# Altium integrated library ALTIUM-WE-TPC-rev17a.IntLib: 258 symbols (part 3 of 3)
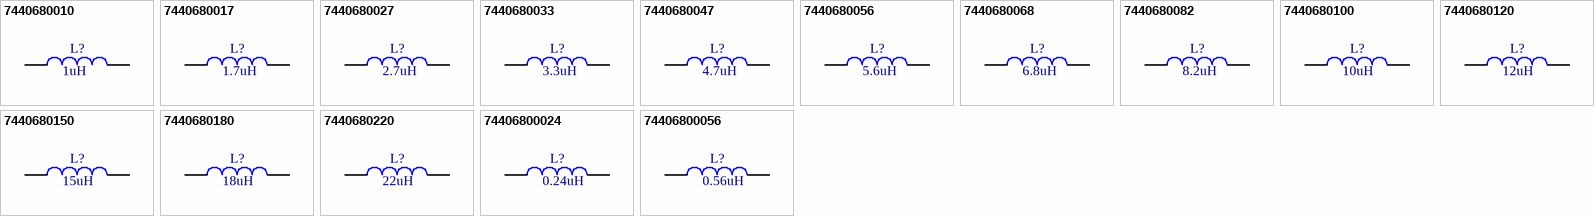
[diagram p17: symbols 7440680010 to 74406800056]

## 7440680056
designator L?  value 5.6uH
WE-TPC SMD Shielded Tiny Power Inductor, size 8012, 1.5A, 110mΩ, 5.6uH; Part Number: 7440680056; ComponentLink1Description: Manufacturer; ComponentLink1URL: http://www.we-online.de; ComponentLink2Description: Datasheet; ComponentLink2URL: http://katalog.we-online.de/pbs/datasheet/7440680056.pdf; Published Date: July 2017; Publisher: Wurth Elektronik; Rated Current: 1.5A; Size: 8012; DC Resistance: 110mΩ
footprint WE-TPC_8012
pins: 1, 3

## 7440680068
designator L?  value 6.8uH
WE-TPC SMD Shielded Tiny Power Inductor, size 8012, 1.4A, 127mΩ, 6.8uH; Part Number: 7440680068; ComponentLink1Description: Manufacturer; ComponentLink1URL: http://www.we-online.de; ComponentLink2Description: Datasheet; ComponentLink2URL: http://katalog.we-online.de/pbs/datasheet/7440680068.pdf; Published Date: July 2017; Publisher: Wurth Elektronik; Rated Current: 1.4A; Size: 8012; DC Resistance: 127mΩ
footprint WE-TPC_8012
pins: 1, 3

## 7440680082
designator L?  value 8.2uH
WE-TPC SMD Shielded Tiny Power Inductor, size 8012, 1.35A, 142mΩ, 8.2uH; Part Number: 7440680082; ComponentLink1Description: Manufacturer; ComponentLink1URL: http://www.we-online.de; ComponentLink2Description: Datasheet; ComponentLink2URL: http://katalog.we-online.de/pbs/datasheet/7440680082.pdf; Published Date: July 2017; Publisher: Wurth Elektronik; Rated Current: 1.35A; Size: 8012; DC Resistance: 142mΩ
footprint WE-TPC_8012
pins: 1, 3

## 7440680100
designator L?  value 10uH
WE-TPC SMD Shielded Tiny Power Inductor, size 8012, 1.2A, 177mΩ, 10uH; Part Number: 7440680100; ComponentLink1Description: Manufacturer; ComponentLink1URL: http://www.we-online.de; ComponentLink2Description: Datasheet; ComponentLink2URL: http://katalog.we-online.de/pbs/datasheet/7440680100.pdf; Published Date: July 2017; Publisher: Wurth Elektronik; Rated Current: 1.2A; Size: 8012; DC Resistance: 177mΩ
footprint WE-TPC_8012
pins: 1, 3

## 7440680120
designator L?  value 12uH
WE-TPC SMD Shielded Tiny Power Inductor, size 8012, 1.15A, 195mΩ, 12uH; Part Number: 7440680120; ComponentLink1Description: Manufacturer; ComponentLink1URL: http://www.we-online.de; ComponentLink2Description: Datasheet; ComponentLink2URL: http://katalog.we-online.de/pbs/datasheet/7440680120.pdf; Published Date: July 2017; Publisher: Wurth Elektronik; Rated Current: 1.15A; Size: 8012; DC Resistance: 195mΩ
footprint WE-TPC_8012
pins: 1, 3

## 7440680150
designator L?  value 15uH
WE-TPC SMD Shielded Tiny Power Inductor, size 8012, 1.1A, 213mΩ, 15uH; Part Number: 7440680150; ComponentLink1Description: Manufacturer; ComponentLink1URL: http://www.we-online.de; ComponentLink2Description: Datasheet; ComponentLink2URL: http://katalog.we-online.de/pbs/datasheet/7440680150.pdf; Published Date: July 2017; Publisher: Wurth Elektronik; Rated Current: 1.1A; Size: 8012; DC Resistance: 213mΩ
footprint WE-TPC_8012
pins: 1, 3

## 7440680180
designator L?  value 18uH
WE-TPC SMD Shielded Tiny Power Inductor, size 8012, 0.9A, 302mΩ, 18uH; Part Number: 7440680180; ComponentLink1Description: Manufacturer; ComponentLink1URL: http://www.we-online.de; ComponentLink2Description: Datasheet; ComponentLink2URL: http://katalog.we-online.de/pbs/datasheet/7440680180.pdf; Published Date: July 2017; Publisher: Wurth Elektronik; Rated Current: 0.9A; Size: 8012; DC Resistance: 302mΩ
footprint WE-TPC_8012
pins: 1, 3

## 7440680220
designator L?  value 22uH
WE-TPC SMD Shielded Tiny Power Inductor, size 8012, 0.85A, 350mΩ, 22uH; Part Number: 7440680220; ComponentLink1Description: Manufacturer; ComponentLink1URL: http://www.we-online.de; ComponentLink2Description: Datasheet; ComponentLink2URL: http://katalog.we-online.de/pbs/datasheet/7440680220.pdf; Published Date: July 2017; Publisher: Wurth Elektronik; Rated Current: 0.85A; Size: 8012; DC Resistance: 350mΩ
footprint WE-TPC_8012
pins: 1, 3

## 74406800024
designator L?  value 0.24uH
WE-TPC SMD Shielded Tiny Power Inductor, size 8012, 4.1A, 15mΩ, 0.24uH; Part Number: 74406800024; ComponentLink1Description: Manufacturer; ComponentLink1URL: http://www.we-online.de; ComponentLink2Description: Datasheet; ComponentLink2URL: http://katalog.we-online.de/pbs/datasheet/74406800024.pdf; Published Date: July 2017; Publisher: Wurth Elektronik; Rated Current: 4.1A; Size: 8012; DC Resistance: 15mΩ
footprint WE-TPC_8012
pins: 1, 3

## 74406800056
designator L?  value 0.56uH
WE-TPC SMD Shielded Tiny Power Inductor, size 8012, 3.4A, 22mΩ, 0.56uH; Part Number: 74406800056; ComponentLink1Description: Manufacturer; ComponentLink1URL: http://www.we-online.de; ComponentLink2Description: Datasheet; ComponentLink2URL: http://katalog.we-online.de/pbs/datasheet/74406800056.pdf; Published Date: July 2017; Publisher: Wurth Elektronik; Rated Current: 3.4A; Size: 8012; DC Resistance: 22mΩ
footprint WE-TPC_8012
pins: 1, 3


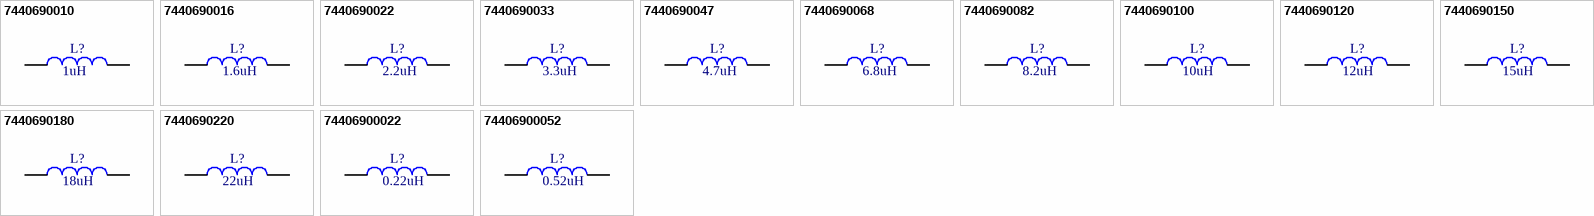
[diagram p13: symbols 7440690010 to 74406900052]

## 7440690010
designator L?  value 1uH
WE-TPC SMD Shielded Tiny Power Inductor, size 8015, 3.6A, 21mΩ, 1uH; Part Number: 7440690010; ComponentLink1Description: Manufacturer; ComponentLink1URL: http://www.we-online.de; ComponentLink2Description: Datasheet; ComponentLink2URL: http://katalog.we-online.de/pbs/datasheet/7440690010.pdf; Published Date: July 2017; Publisher: Wurth Elektronik; Rated Current: 3.6A; Size: 8015; DC Resistance: 21mΩ
footprint WE-TPC_8015
pins: 1, 3

## 7440690016
designator L?  value 1.6uH
WE-TPC SMD Shielded Tiny Power Inductor, size 8015, 3.1A, 29mΩ, 1.6uH; Part Number: 7440690016; ComponentLink1Description: Manufacturer; ComponentLink1URL: http://www.we-online.de; ComponentLink2Description: Datasheet; ComponentLink2URL: http://katalog.we-online.de/pbs/datasheet/7440690016.pdf; Published Date: July 2017; Publisher: Wurth Elektronik; Rated Current: 3.1A; Size: 8015; DC Resistance: 29mΩ
footprint WE-TPC_8015
pins: 1, 3

## 7440690022
designator L?  value 2.2uH
WE-TPC SMD Shielded Tiny Power Inductor, size 8015, 2.8A, 35mΩ, 2.2uH; Part Number: 7440690022; ComponentLink1Description: Manufacturer; ComponentLink1URL: http://www.we-online.de; ComponentLink2Description: Datasheet; ComponentLink2URL: http://katalog.we-online.de/pbs/datasheet/7440690022.pdf; Published Date: July 2017; Publisher: Wurth Elektronik; Rated Current: 2.8A; Size: 8015; DC Resistance: 35mΩ
footprint WE-TPC_8015
pins: 1, 3

## 7440690033
designator L?  value 3.3uH
WE-TPC SMD Shielded Tiny Power Inductor, size 8015, 2.55A, 42mΩ, 3.3uH; Part Number: 7440690033; ComponentLink1Description: Manufacturer; ComponentLink1URL: http://www.we-online.de; ComponentLink2Description: Datasheet; ComponentLink2URL: http://katalog.we-online.de/pbs/datasheet/7440690033.pdf; Published Date: July 2017; Publisher: Wurth Elektronik; Rated Current: 2.55A; Size: 8015; DC Resistance: 42mΩ
footprint WE-TPC_8015
pins: 1, 3

## 7440690047
designator L?  value 4.7uH
WE-TPC SMD Shielded Tiny Power Inductor, size 8015, 2.2A, 56mΩ, 4.7uH; Part Number: 7440690047; ComponentLink1Description: Manufacturer; ComponentLink1URL: http://www.we-online.de; ComponentLink2Description: Datasheet; ComponentLink2URL: http://katalog.we-online.de/pbs/datasheet/7440690047.pdf; Published Date: July 2017; Publisher: Wurth Elektronik; Rated Current: 2.2A; Size: 8015; DC Resistance: 56mΩ
footprint WE-TPC_8015
pins: 1, 3

## 7440690068
designator L?  value 6.8uH
WE-TPC SMD Shielded Tiny Power Inductor, size 8015, 1.75A, 88mΩ, 6.8uH; Part Number: 7440690068; ComponentLink1Description: Manufacturer; ComponentLink1URL: http://www.we-online.de; ComponentLink2Description: Datasheet; ComponentLink2URL: http://katalog.we-online.de/pbs/datasheet/7440690068.pdf; Published Date: July 2017; Publisher: Wurth Elektronik; Rated Current: 1.75A; Size: 8015; DC Resistance: 88mΩ
footprint WE-TPC_8015
pins: 1, 3

## 7440690082
designator L?  value 8.2uH
WE-TPC SMD Shielded Tiny Power Inductor, size 8015, 1.65A, 99mΩ, 8.2uH; Part Number: 7440690082; ComponentLink1Description: Manufacturer; ComponentLink1URL: http://www.we-online.de; ComponentLink2Description: Datasheet; ComponentLink2URL: http://katalog.we-online.de/pbs/datasheet/7440690082.pdf; Published Date: July 2017; Publisher: Wurth Elektronik; Rated Current: 1.65A; Size: 8015; DC Resistance: 99mΩ
footprint WE-TPC_8015
pins: 1, 3

## 7440690100
designator L?  value 10uH
WE-TPC SMD Shielded Tiny Power Inductor, size 8015, 1.55A, 112mΩ, 10uH; Part Number: 7440690100; ComponentLink1Description: Manufacturer; ComponentLink1URL: http://www.we-online.de; ComponentLink2Description: Datasheet; ComponentLink2URL: http://katalog.we-online.de/pbs/datasheet/7440690100.pdf; Published Date: July 2017; Publisher: Wurth Elektronik; Rated Current: 1.55A; Size: 8015; DC Resistance: 112mΩ
footprint WE-TPC_8015
pins: 1, 3

## 7440690120
designator L?  value 12uH
WE-TPC SMD Shielded Tiny Power Inductor, size 8015, 1.35A, 148mΩ, 12uH; Part Number: 7440690120; ComponentLink1Description: Manufacturer; ComponentLink1URL: http://www.we-online.de; ComponentLink2Description: Datasheet; ComponentLink2URL: http://katalog.we-online.de/pbs/datasheet/7440690120.pdf; Published Date: July 2017; Publisher: Wurth Elektronik; Rated Current: 1.35A; Size: 8015; DC Resistance: 148mΩ
footprint WE-TPC_8015
pins: 1, 3

## 7440690150
designator L?  value 15uH
WE-TPC SMD Shielded Tiny Power Inductor, size 8015, 1.25A, 179mΩ, 15uH; Part Number: 7440690150; ComponentLink1Description: Manufacturer; ComponentLink1URL: http://www.we-online.de; ComponentLink2Description: Datasheet; ComponentLink2URL: http://katalog.we-online.de/pbs/datasheet/7440690150.pdf; Published Date: July 2017; Publisher: Wurth Elektronik; Rated Current: 1.25A; Size: 8015; DC Resistance: 179mΩ
footprint WE-TPC_8015
pins: 1, 3

## 7440690180
designator L?  value 18uH
WE-TPC SMD Shielded Tiny Power Inductor, size 8015, 1.1A, 225mΩ, 18uH; Part Number: 7440690180; ComponentLink1Description: Manufacturer; ComponentLink1URL: http://www.we-online.de; ComponentLink2Description: Datasheet; ComponentLink2URL: http://katalog.we-online.de/pbs/datasheet/7440690180.pdf; Published Date: July 2017; Publisher: Wurth Elektronik; Rated Current: 1.1A; Size: 8015; DC Resistance: 225mΩ
footprint WE-TPC_8015
pins: 1, 3

## 7440690220
designator L?  value 22uH
WE-TPC SMD Shielded Tiny Power Inductor, size 8015, 1A, 272mΩ, 22uH; Part Number: 7440690220; ComponentLink1Description: Manufacturer; ComponentLink1URL: http://www.we-online.de; ComponentLink2Description: Datasheet; ComponentLink2URL: http://katalog.we-online.de/pbs/datasheet/7440690220.pdf; Published Date: July 2017; Publisher: Wurth Elektronik; Rated Current: 1A; Size: 8015; DC Resistance: 272mΩ
footprint WE-TPC_8015
pins: 1, 3

## 74406900022
designator L?  value 0.22uH
WE-TPC SMD Shielded Tiny Power Inductor, size 8015, 5.5A, 9mΩ, 0.22uH; Part Number: 74406900022; ComponentLink1Description: Manufacturer; ComponentLink1URL: http://www.we-online.de; ComponentLink2Description: Datasheet; ComponentLink2URL: http://katalog.we-online.de/pbs/datasheet/74406900022.pdf; Published Date: July 2017; Publisher: Wurth Elektronik; Rated Current: 5.5A; Size: 8015; DC Resistance: 9mΩ
footprint WE-TPC_8015
pins: 1, 3

## 74406900052
designator L?  value 0.52uH
WE-TPC SMD Shielded Tiny Power Inductor, size 8015, 4.3A, 15mΩ, 0.52uH; Part Number: 74406900052; ComponentLink1Description: Manufacturer; ComponentLink1URL: http://www.we-online.de; ComponentLink2Description: Datasheet; ComponentLink2URL: http://katalog.we-online.de/pbs/datasheet/74406900052.pdf; Published Date: July 2017; Publisher: Wurth Elektronik; Rated Current: 4.3A; Size: 8015; DC Resistance: 15mΩ
footprint WE-TPC_8015
pins: 1, 3


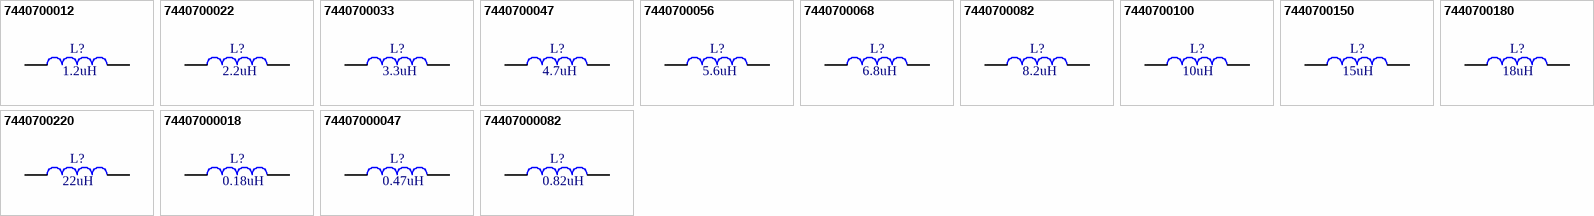
[diagram p14: symbols 7440700012 to 74407000082]

## 7440700012
designator L?  value 1.2uH
WE-TPC SMD Shielded Tiny Power Inductor, size 8020, 4.8A, 12.5mΩ, 1.2uH; Part Number: 7440700012; ComponentLink1Description: Manufacturer; ComponentLink1URL: http://www.we-online.de; ComponentLink2Description: Datasheet; ComponentLink2URL: http://katalog.we-online.de/pbs/datasheet/7440700012.pdf; Published Date: July 2017; Publisher: Wurth Elektronik; Rated Current: 4.8A; Size: 8020; DC Resistance: 12.5mΩ
footprint WE-TPC_8020
pins: 1, 3

## 7440700022
designator L?  value 2.2uH
WE-TPC SMD Shielded Tiny Power Inductor, size 8020, 4.6A, 17mΩ, 2.2uH; Part Number: 7440700022; ComponentLink1Description: Manufacturer; ComponentLink1URL: http://www.we-online.de; ComponentLink2Description: Datasheet; ComponentLink2URL: http://katalog.we-online.de/pbs/datasheet/7440700022.pdf; Published Date: July 2017; Publisher: Wurth Elektronik; Rated Current: 4.6A; Size: 8020; DC Resistance: 17mΩ
footprint WE-TPC_8020
pins: 1, 3

## 7440700033
designator L?  value 3.3uH
WE-TPC SMD Shielded Tiny Power Inductor, size 8020, 3.2A, 30mΩ, 3.3uH; Part Number: 7440700033; ComponentLink1Description: Manufacturer; ComponentLink1URL: http://www.we-online.de; ComponentLink2Description: Datasheet; ComponentLink2URL: http://katalog.we-online.de/pbs/datasheet/7440700033.pdf; Published Date: July 2017; Publisher: Wurth Elektronik; Rated Current: 3.2A; Size: 8020; DC Resistance: 30mΩ
footprint WE-TPC_8020
pins: 1, 3

## 7440700047
designator L?  value 4.7uH
WE-TPC SMD Shielded Tiny Power Inductor, size 8020, 3A, 37mΩ, 4.7uH; Part Number: 7440700047; ComponentLink1Description: Manufacturer; ComponentLink1URL: http://www.we-online.de; ComponentLink2Description: Datasheet; ComponentLink2URL: http://katalog.we-online.de/pbs/datasheet/7440700047.pdf; Published Date: July 2017; Publisher: Wurth Elektronik; Rated Current: 3A; Size: 8020; DC Resistance: 37mΩ
footprint WE-TPC_8020
pins: 1, 3

## 7440700056
designator L?  value 5.6uH
WE-TPC SMD Shielded Tiny Power Inductor, size 8020, 2.6A, 47mΩ, 5.6uH; Part Number: 7440700056; ComponentLink1Description: Manufacturer; ComponentLink1URL: http://www.we-online.de; ComponentLink2Description: Datasheet; ComponentLink2URL: http://katalog.we-online.de/pbs/datasheet/7440700056.pdf; Published Date: July 2017; Publisher: Wurth Elektronik; Rated Current: 2.6A; Size: 8020; DC Resistance: 47mΩ
footprint WE-TPC_8020
pins: 1, 3

## 7440700068
designator L?  value 6.8uH
WE-TPC SMD Shielded Tiny Power Inductor, size 8020, 2.4A, 56mΩ, 6.8uH; Part Number: 7440700068; ComponentLink1Description: Manufacturer; ComponentLink1URL: http://www.we-online.de; ComponentLink2Description: Datasheet; ComponentLink2URL: http://katalog.we-online.de/pbs/datasheet/7440700068.pdf; Published Date: July 2017; Publisher: Wurth Elektronik; Rated Current: 2.4A; Size: 8020; DC Resistance: 56mΩ
footprint WE-TPC_8020
pins: 1, 3

## 7440700082
designator L?  value 8.2uH
WE-TPC SMD Shielded Tiny Power Inductor, size 8020, 2.2A, 70.5mΩ, 8.2uH; Part Number: 7440700082; ComponentLink1Description: Manufacturer; ComponentLink1URL: http://www.we-online.de; ComponentLink2Description: Datasheet; ComponentLink2URL: http://katalog.we-online.de/pbs/datasheet/7440700082.pdf; Published Date: July 2017; Publisher: Wurth Elektronik; Rated Current: 2.2A; Size: 8020; DC Resistance: 70.5mΩ
footprint WE-TPC_8020
pins: 1, 3

## 7440700100
designator L?  value 10uH
WE-TPC SMD Shielded Tiny Power Inductor, size 8020, 2A, 78mΩ, 10uH; Part Number: 7440700100; ComponentLink1Description: Manufacturer; ComponentLink1URL: http://www.we-online.de; ComponentLink2Description: Datasheet; ComponentLink2URL: http://katalog.we-online.de/pbs/datasheet/7440700100.pdf; Published Date: July 2017; Publisher: Wurth Elektronik; Rated Current: 2A; Size: 8020; DC Resistance: 78mΩ
footprint WE-TPC_8020
pins: 1, 3

## 7440700150
designator L?  value 15uH
WE-TPC SMD Shielded Tiny Power Inductor, size 8020, 1.65A, 117mΩ, 15uH; Part Number: 7440700150; ComponentLink1Description: Manufacturer; ComponentLink1URL: http://www.we-online.de; ComponentLink2Description: Datasheet; ComponentLink2URL: http://katalog.we-online.de/pbs/datasheet/7440700150.pdf; Published Date: July 2017; Publisher: Wurth Elektronik; Rated Current: 1.65A; Size: 8020; DC Resistance: 117mΩ
footprint WE-TPC_8020
pins: 1, 3

## 7440700180
designator L?  value 18uH
WE-TPC SMD Shielded Tiny Power Inductor, size 8020, 1.5A, 135mΩ, 18uH; Part Number: 7440700180; ComponentLink1Description: Manufacturer; ComponentLink1URL: http://www.we-online.de; ComponentLink2Description: Datasheet; ComponentLink2URL: http://katalog.we-online.de/pbs/datasheet/7440700180.pdf; Published Date: July 2017; Publisher: Wurth Elektronik; Rated Current: 1.5A; Size: 8020; DC Resistance: 135mΩ
footprint WE-TPC_8020
pins: 1, 3

## 7440700220
designator L?  value 22uH
WE-TPC SMD Shielded Tiny Power Inductor, size 8020, 1.3A, 166mΩ, 22uH; Part Number: 7440700220; ComponentLink1Description: Manufacturer; ComponentLink1URL: http://www.we-online.de; ComponentLink2Description: Datasheet; ComponentLink2URL: http://katalog.we-online.de/pbs/datasheet/7440700220.pdf; Published Date: July 2017; Publisher: Wurth Elektronik; Rated Current: 1.3A; Size: 8020; DC Resistance: 166mΩ
footprint WE-TPC_8020
pins: 1, 3

## 74407000018
designator L?  value 0.18uH
WE-TPC SMD Shielded Tiny Power Inductor, size 8020, 8.5A, 3.51mΩ, 0.18uH; Part Number: 74407000018; ComponentLink1Description: Manufacturer; ComponentLink1URL: http://www.we-online.de; ComponentLink2Description: Datasheet; ComponentLink2URL: http://katalog.we-online.de/pbs/datasheet/74407000018.pdf; Published Date: July 2017; Publisher: Wurth Elektronik; Rated Current: 8.5A; Size: 8020; DC Resistance: 3.51mΩ
footprint WE-TPC_8020
pins: 1, 3

## 74407000047
designator L?  value 0.47uH
WE-TPC SMD Shielded Tiny Power Inductor, size 8020, 7A, 5.8mΩ, 0.47uH; Part Number: 74407000047; ComponentLink1Description: Manufacturer; ComponentLink1URL: http://www.we-online.de; ComponentLink2Description: Datasheet; ComponentLink2URL: http://katalog.we-online.de/pbs/datasheet/74407000047.pdf; Published Date: July 2017; Publisher: Wurth Elektronik; Rated Current: 7A; Size: 8020; DC Resistance: 5.8mΩ
footprint WE-TPC_8020
pins: 1, 3

## 74407000082
designator L?  value 0.82uH
WE-TPC SMD Shielded Tiny Power Inductor, size 8020, 6.2A, 8.5mΩ, 0.82uH; Part Number: 74407000082; ComponentLink1Description: Manufacturer; ComponentLink1URL: http://www.we-online.de; ComponentLink2Description: Datasheet; ComponentLink2URL: http://katalog.we-online.de/pbs/datasheet/74407000082.pdf; Published Date: July 2017; Publisher: Wurth Elektronik; Rated Current: 6.2A; Size: 8020; DC Resistance: 8.5mΩ
footprint WE-TPC_8020
pins: 1, 3


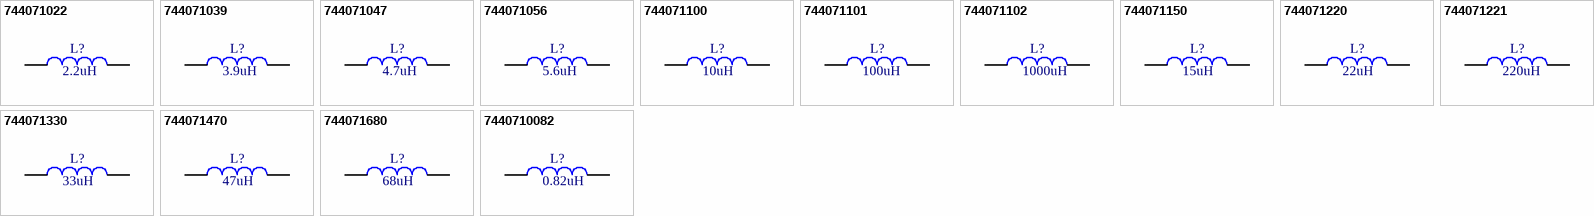
[diagram p15: symbols 744071022 to 7440710082]

## 744071022
designator L?  value 2.2uH
WE-TPC SMD Shielded Tiny Power Inductor, size 8043, 5.4A, 10mΩ, 2.2uH; Part Number: 744071022; ComponentLink1Description: Manufacturer; ComponentLink1URL: http://www.we-online.de; ComponentLink2Description: Datasheet; ComponentLink2URL: http://katalog.we-online.de/pbs/datasheet/744071022.pdf; Published Date: July 2017; Publisher: Wurth Elektronik; Rated Current: 5.4A; Size: 8043; DC Resistance: 10mΩ
footprint WE-TPC_8043
pins: 1, 3

## 744071039
designator L?  value 3.9uH
WE-TPC SMD Shielded Tiny Power Inductor, size 8043, 4.9A, 13mΩ, 3.9uH; Part Number: 744071039; ComponentLink1Description: Manufacturer; ComponentLink1URL: http://www.we-online.de; ComponentLink2Description: Datasheet; ComponentLink2URL: http://katalog.we-online.de/pbs/datasheet/744071039.pdf; Published Date: July 2017; Publisher: Wurth Elektronik; Rated Current: 4.9A; Size: 8043; DC Resistance: 13mΩ
footprint WE-TPC_8043
pins: 1, 3

## 744071047
designator L?  value 4.7uH
WE-TPC SMD Shielded Tiny Power Inductor, size 8043, 4.8A, 17mΩ, 4.7uH; Part Number: 744071047; ComponentLink1Description: Manufacturer; ComponentLink1URL: http://www.we-online.de; ComponentLink2Description: Datasheet; ComponentLink2URL: http://katalog.we-online.de/pbs/datasheet/744071047.pdf; Published Date: July 2017; Publisher: Wurth Elektronik; Rated Current: 4.8A; Size: 8043; DC Resistance: 17mΩ
footprint WE-TPC_8043
pins: 1, 3

## 744071056
designator L?  value 5.6uH
WE-TPC SMD Shielded Tiny Power Inductor, size 8043, 4A, 20mΩ, 5.6uH; Part Number: 744071056; ComponentLink1Description: Manufacturer; ComponentLink1URL: http://www.we-online.de; ComponentLink2Description: Datasheet; ComponentLink2URL: http://katalog.we-online.de/pbs/datasheet/744071056.pdf; Published Date: July 2017; Publisher: Wurth Elektronik; Rated Current: 4A; Size: 8043; DC Resistance: 20mΩ
footprint WE-TPC_8043
pins: 1, 3

## 744071100
designator L?  value 10uH
WE-TPC SMD Shielded Tiny Power Inductor, size 8043, 3.4A, 28mΩ, 10uH; Part Number: 744071100; ComponentLink1Description: Manufacturer; ComponentLink1URL: http://www.we-online.de; ComponentLink2Description: Datasheet; ComponentLink2URL: http://katalog.we-online.de/pbs/datasheet/744071100.pdf; Published Date: July 2017; Publisher: Wurth Elektronik; Rated Current: 3.4A; Size: 8043; DC Resistance: 28mΩ
footprint WE-TPC_8043
pins: 1, 3

## 744071101
designator L?  value 100uH
WE-TPC SMD Shielded Tiny Power Inductor, size 8043, 1A, 270mΩ, 100uH; Part Number: 744071101; ComponentLink1Description: Manufacturer; ComponentLink1URL: http://www.we-online.de; ComponentLink2Description: Datasheet; ComponentLink2URL: http://katalog.we-online.de/pbs/datasheet/744071101.pdf; Published Date: July 2017; Publisher: Wurth Elektronik; Rated Current: 1A; Size: 8043; DC Resistance: 270mΩ
footprint WE-TPC_8043
pins: 1, 3

## 744071102
designator L?  value 1000uH
WE-TPC SMD Shielded Tiny Power Inductor, size 8043, 0.23A, 2985mΩ, 1000uH; Part Number: 744071102; ComponentLink1Description: Manufacturer; ComponentLink1URL: http://www.we-online.de; ComponentLink2Description: Datasheet; ComponentLink2URL: http://katalog.we-online.de/pbs/datasheet/744071102.pdf; Published Date: July 2017; Publisher: Wurth Elektronik; Rated Current: 0.23A; Size: 8043; DC Resistance: 2985mΩ
footprint WE-TPC_8043
pins: 1, 3

## 744071150
designator L?  value 15uH
WE-TPC SMD Shielded Tiny Power Inductor, size 8043, 2.8A, 46mΩ, 15uH; Part Number: 744071150; ComponentLink1Description: Manufacturer; ComponentLink1URL: http://www.we-online.de; ComponentLink2Description: Datasheet; ComponentLink2URL: http://katalog.we-online.de/pbs/datasheet/744071150.pdf; Published Date: July 2017; Publisher: Wurth Elektronik; Rated Current: 2.8A; Size: 8043; DC Resistance: 46mΩ
footprint WE-TPC_8043
pins: 1, 3

## 744071220
designator L?  value 22uH
WE-TPC SMD Shielded Tiny Power Inductor, size 8043, 2.3A, 65mΩ, 22uH; Part Number: 744071220; ComponentLink1Description: Manufacturer; ComponentLink1URL: http://www.we-online.de; ComponentLink2Description: Datasheet; ComponentLink2URL: http://katalog.we-online.de/pbs/datasheet/744071220.pdf; Published Date: July 2017; Publisher: Wurth Elektronik; Rated Current: 2.3A; Size: 8043; DC Resistance: 65mΩ
footprint WE-TPC_8043
pins: 1, 3

## 744071221
designator L?  value 220uH
WE-TPC SMD Shielded Tiny Power Inductor, size 8043, 0.72A, 510mΩ, 220uH; Part Number: 744071221; ComponentLink1Description: Manufacturer; ComponentLink1URL: http://www.we-online.de; ComponentLink2Description: Datasheet; ComponentLink2URL: http://katalog.we-online.de/pbs/datasheet/744071221.pdf; Published Date: July 2017; Publisher: Wurth Elektronik; Rated Current: 0.72A; Size: 8043; DC Resistance: 510mΩ
footprint WE-TPC_8043
pins: 1, 3

## 744071330
designator L?  value 33uH
WE-TPC SMD Shielded Tiny Power Inductor, size 8043, 1.9A, 95mΩ, 33uH; Part Number: 744071330; ComponentLink1Description: Manufacturer; ComponentLink1URL: http://www.we-online.de; ComponentLink2Description: Datasheet; ComponentLink2URL: http://katalog.we-online.de/pbs/datasheet/744071330.pdf; Published Date: July 2017; Publisher: Wurth Elektronik; Rated Current: 1.9A; Size: 8043; DC Resistance: 95mΩ
footprint WE-TPC_8043
pins: 1, 3

## 744071470
designator L?  value 47uH
WE-TPC SMD Shielded Tiny Power Inductor, size 8043, 1.6A, 120mΩ, 47uH; Part Number: 744071470; ComponentLink1Description: Manufacturer; ComponentLink1URL: http://www.we-online.de; ComponentLink2Description: Datasheet; ComponentLink2URL: http://katalog.we-online.de/pbs/datasheet/744071470.pdf; Published Date: July 2017; Publisher: Wurth Elektronik; Rated Current: 1.6A; Size: 8043; DC Resistance: 120mΩ
footprint WE-TPC_8043
pins: 1, 3

## 744071680
designator L?  value 68uH
WE-TPC SMD Shielded Tiny Power Inductor, size 8043, 1.3A, 185mΩ, 68uH; Part Number: 744071680; ComponentLink1Description: Manufacturer; ComponentLink1URL: http://www.we-online.de; ComponentLink2Description: Datasheet; ComponentLink2URL: http://katalog.we-online.de/pbs/datasheet/744071680.pdf; Published Date: July 2017; Publisher: Wurth Elektronik; Rated Current: 1.3A; Size: 8043; DC Resistance: 185mΩ
footprint WE-TPC_8043
pins: 1, 3

## 7440710082
designator L?  value 0.82uH
WE-TPC SMD Shielded Tiny Power Inductor, size 8043, 7.3A, 7mΩ, 0.82uH; Part Number: 7440710082; ComponentLink1Description: Manufacturer; ComponentLink1URL: http://www.we-online.de; ComponentLink2Description: Datasheet; ComponentLink2URL: http://katalog.we-online.de/pbs/datasheet/7440710082.pdf; Published Date: July 2017; Publisher: Wurth Elektronik; Rated Current: 7.3A; Size: 8043; DC Resistance: 7mΩ
footprint WE-TPC_8043
pins: 1, 3